# Altium footprint library ENGG4000-SysMoDEL-BMS.PcbLib: 82 footprints (part 5 of 6)
Each footprint in its own frame and in the unit in brackets; x right, y up, seen from the top. Pads: shape width x height; smd on the part's side, far side on the other; paste and mask are expansions set on the pad; w line width, h text height; cw(c..) or ccw(c..) is an arc to the next point about the centre after c.
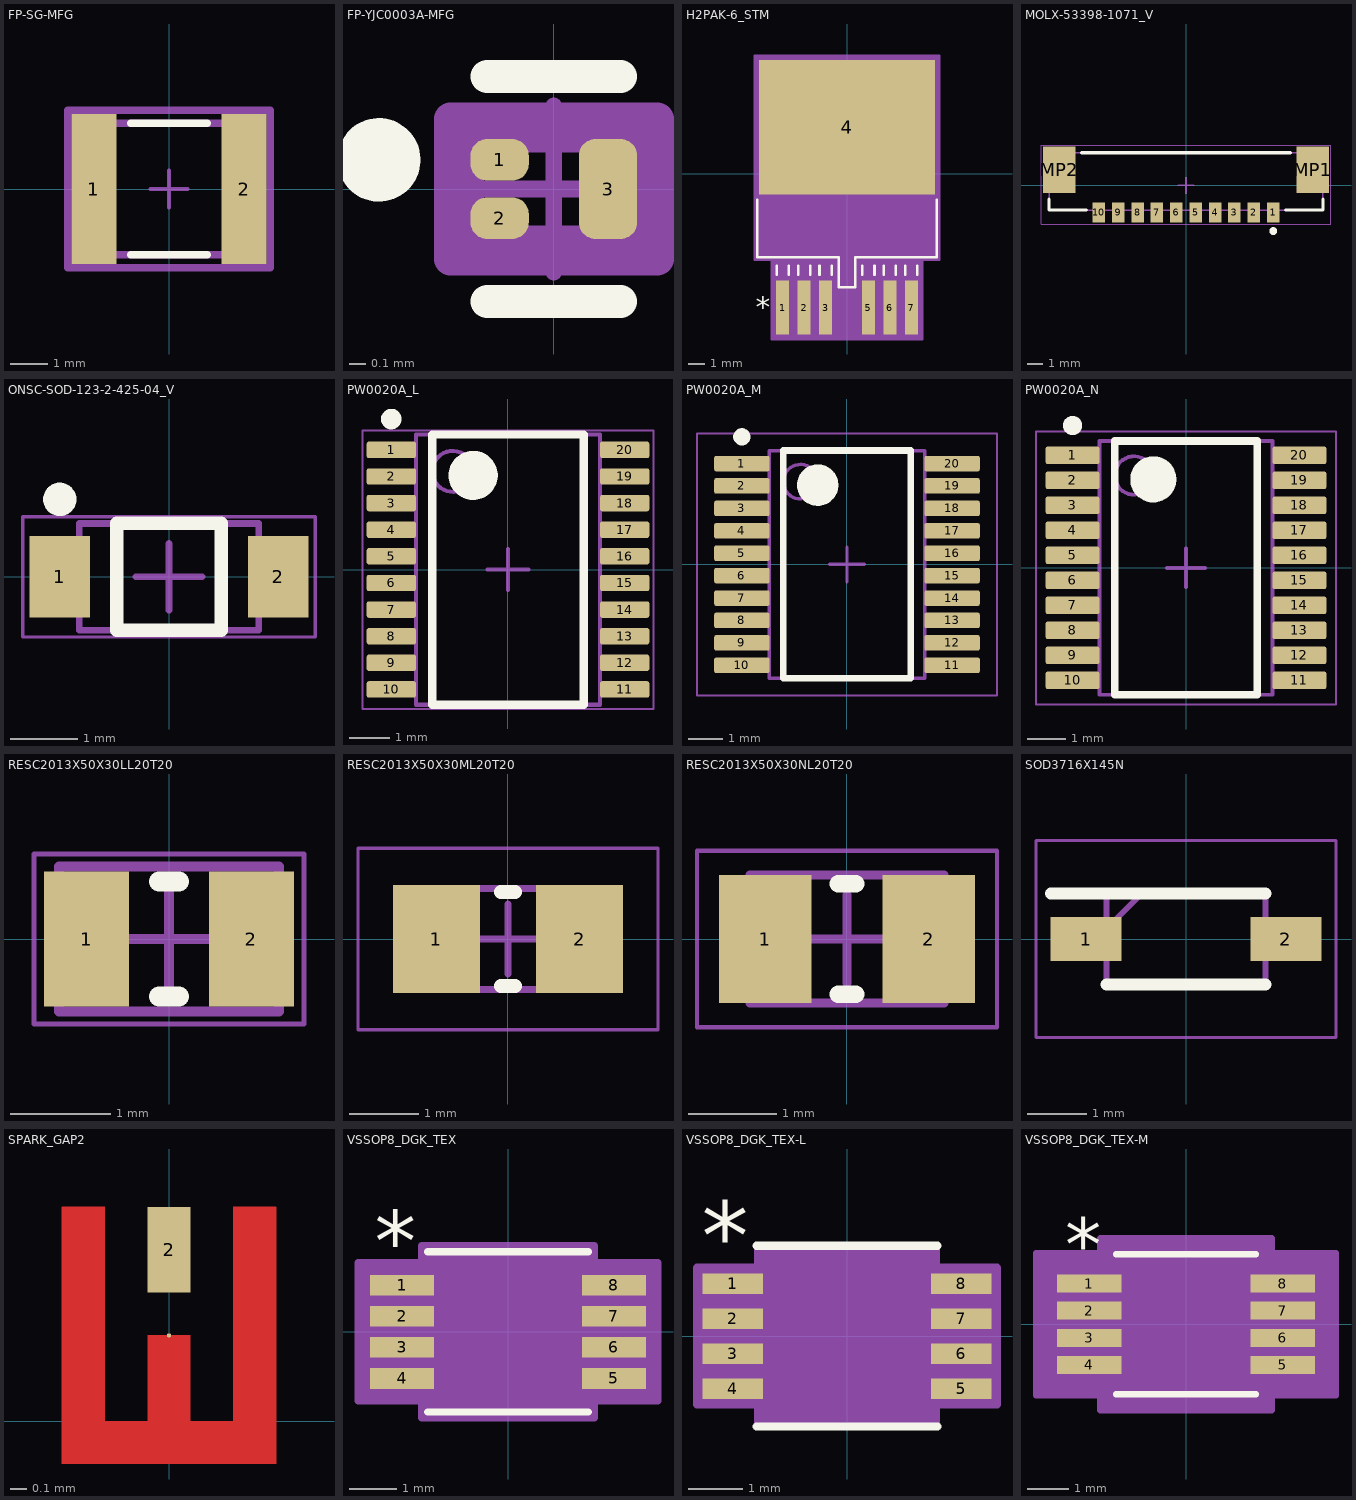
[diagram p4: the footprints below, top view; thin cyan lines are the x and y axes]

## FP-SG-MFG [mm]
pads (2):
  rect 1.2x4 smd paste+0 mask+0: 1(-2,0) 2(2,0)
Top Overlay:
  lines w0.2: -1.025,-1.75 1.025,-1.75 ; -1.025,1.75 1.025,1.75
Top Assembly:
  lines w0.2: -2.7,-2.1 2.7,-2.1 2.7,2.1 -2.7,2.1 -2.7,-2.1
  text ".Designator" at 0,0.188 h1
Top 3D Body:
  lines w0.2: -2.4,-1.75 2.4,-1.75 2.4,1.75 -2.4,1.75 -2.4,-1.75
Top Courtyard:
  lines w0.2: -2.7,-2.1 2.7,-2.1 2.7,2.1 -2.7,2.1 -2.7,-2.1
Top Component Center:
  lines w0.1: -0.5,0 0.5,0 ; 0,-0.5 0,0.5
3D body "Fuse_Littelfuse_Inc_SG90_eec.STEP": height 0.25, standoff 0, extent -2.7,-2.1 2.7,2.1

## FP-YJC0003A-MFG [mm]
pads (3):
  rrect80% 0.35x0.25 smd paste-1000 mask-1000: 1(-0.325,0.175) 2(-0.325,-0.175)
  rrect57% 0.35x0.6 smd paste-1000 mask-1000: 3(0.325,0)
Top Overlay:
  circle w0.25: c-1.05,0.175 r0.125
  lines w0.2: -0.4,-0.675 0.4,-0.675 ; -0.4,0.675 0.4,0.675
Top Paste:
  region: 0.2,0.2 0.2,0.21 0.208,0.228 0.222,0.242 0.24,0.25 0.25,0.25 0.4,0.25 0.41,0.25 0.428,0.242 0.442,0.228 0.45,0.21 0.45,0.2 0.45,-0.2 0.45,-0.21 0.442,-0.228 0.428,-0.242 0.41,-0.25 0.4,-0.25 0.25,-0.25 0.24,-0.25 0.222,-0.242 0.208,-0.228 0.2,-0.21 0.2,-0.2
  region: -0.45,0.25 -0.45,0.26 -0.442,0.278 -0.428,0.292 -0.41,0.3 -0.4,0.3 -0.25,0.3 -0.24,0.3 -0.222,0.292 -0.208,0.278 -0.2,0.26 -0.2,0.25 -0.2,0.15 -0.2,0.14 -0.208,0.122 -0.222,0.108 -0.24,0.1 -0.25,0.1 -0.4,0.1 -0.41,0.1 -0.428,0.108 -0.442,0.122 -0.45,0.14 -0.45,0.15
  region: -0.45,-0.15 -0.45,-0.14 -0.442,-0.122 -0.428,-0.108 -0.41,-0.1 -0.4,-0.1 -0.25,-0.1 -0.24,-0.1 -0.222,-0.108 -0.208,-0.122 -0.2,-0.14 -0.2,-0.15 -0.2,-0.25 -0.2,-0.26 -0.208,-0.278 -0.222,-0.292 -0.24,-0.3 -0.25,-0.3 -0.4,-0.3 -0.41,-0.3 -0.428,-0.292 -0.442,-0.278 -0.45,-0.26 -0.45,-0.25
Top Solder:
  region: 0.2,0.2 0.2,0.21 0.208,0.228 0.222,0.242 0.24,0.25 0.25,0.25 0.4,0.25 0.41,0.25 0.428,0.242 0.442,0.228 0.45,0.21 0.45,0.2 0.45,-0.2 0.45,-0.21 0.442,-0.228 0.428,-0.242 0.41,-0.25 0.4,-0.25 0.25,-0.25 0.24,-0.25 0.222,-0.242 0.208,-0.228 0.2,-0.21 0.2,-0.2
  region: -0.4,0.25 -0.25,0.25 -0.24,0.25 -0.222,0.242 -0.208,0.228 -0.2,0.21 -0.2,0.2 -0.2,0.15 -0.2,0.14 -0.208,0.122 -0.222,0.108 -0.24,0.1 -0.25,0.1 -0.4,0.1 -0.41,0.1 -0.428,0.108 -0.442,0.122 -0.45,0.14 -0.45,0.15 -0.45,0.2 -0.45,0.21 -0.442,0.228 -0.428,0.242 -0.41,0.25
  region: -0.45,-0.15 -0.45,-0.14 -0.442,-0.122 -0.428,-0.108 -0.41,-0.1 -0.4,-0.1 -0.25,-0.1 -0.24,-0.1 -0.222,-0.108 -0.208,-0.122 -0.2,-0.14 -0.2,-0.15 -0.2,-0.2 -0.2,-0.21 -0.208,-0.228 -0.222,-0.242 -0.24,-0.25 -0.25,-0.25 -0.4,-0.25 -0.41,-0.25 -0.428,-0.242 -0.442,-0.228 -0.45,-0.21 -0.45,-0.2
Top Assembly:
  lines w0.2: -0.62,-0.42 0.62,-0.42 0.62,0.42 -0.62,0.42 -0.62,-0.42
  text ".Designator" at 0,0 h1
Top 3D Body:
  lines w0.2: -0.52,-0.32 0.52,-0.32 0.52,0.32 -0.52,0.32 -0.52,-0.32
Top Courtyard:
  lines w0.2: -0.62,-0.42 0.62,-0.42 0.62,0.42 -0.62,0.42 -0.62,-0.42
Top Component Center:
  lines w0.1: -0.5,0 0.5,0 ; 0,-0.5 0,0.5
3D body "Trans_Texas_Instruments_CSD23381F4T_eec.STEP": height 0.25, standoff 0, extent -0.62,-0.42 0.62,0.42

## H2PAK-6_STM [mil]
pads (7):
  rect 30x126 smd paste+0 mask+0: 1(-150,-311.5) 2(-100,-311.5) 3(-50,-311.5) 5(50,-311.5) 6(100,-311.5) 7(150,-311.5)
  rect 411x313 smd paste+0 mask+0: 4(0,109)
Top Overlay:
  lines w6: -209.5,-59.97 -209.5,-194.5 -19,-194.5 -19,-263.5 19,-263.5 19,-194.5 209.5,-194.5 209.5,-59.97 ; -164,-234.5 -164,-213.5 ; -136,-234.5 -136,-213.5 ; -114,-234.5 -114,-213.5 ; -86,-234.5 -86,-213.5 ; -64,-234.5 -64,-213.5 ; -36,-234.5 -36,-213.5 ; 36,-234.5 36,-213.5 ; 64,-234.5 64,-213.5 ; 86,-234.5 86,-213.5 ; 114,-234.5 114,-213.5 ; 136,-234.5 136,-213.5 ; 164,-234.5 164,-213.5
  text "*" at -212.5,-336.5 h50
Top 3D Body:
  lines w1: -204.5,-189.5 204.5,-189.5 204.5,189.5 -204.5,189.5 -204.5,-189.5 ; -164,-360.5 -164,-189.5 -136,-189.5 -136,-360.5 -164,-360.5 ; -114,-360.5 -114,-189.5 -86,-189.5 -86,-360.5 -114,-360.5 ; -64,-360.5 -64,-189.5 -36,-189.5 -36,-360.5 -64,-360.5 ; -14,-258.5 -14,-189.5 14,-189.5 14,-258.5 -14,-258.5 ; 36,-360.5 36,-189.5 64,-189.5 64,-360.5 36,-360.5 ; 86,-360.5 86,-189.5 114,-189.5 114,-360.5 86,-360.5 ; 136,-360.5 136,-189.5 164,-189.5 164,-360.5 136,-360.5
  text "*" at -162.5,-204.5 h50
Top Courtyard:
  region: -214.5,-199.5 -214.5,199.5 -214.5,275.5 214.5,275.5 214.5,199.5 214.5,-199.5 175,-199.5 175,-384.5 -175,-384.5 -175,-199.5
  lines w6: -214.5,-199.5 -214.5,199.5 -214.5,275.5 214.5,275.5 214.5,199.5 214.5,-199.5 175,-199.5 175,-384.5 -175,-384.5 -175,-199.5 -214.5,-199.5
3D body "DPAK_N10F7-6_STM.step": height 189.09, standoff -2.01, extent -204.49,-370 204.49,285

## MOLX-53398-1071_V [mm] "SMD, 10-Leads, Body 17.65x3.7mm, Pitch 1.25mm"
height 4.7
pads (12):
  rect 0.8x1.3 smd: 1(5.625,-1.75) 2(4.375,-1.75) 3(3.125,-1.75) 4(1.875,-1.75) 5(0.625,-1.75) 6(-0.625,-1.75) 7(-1.875,-1.75) 8(-3.125,-1.75) 9(-4.375,-1.75) 10(-5.625,-1.75)
  rect 2.1x3 smd: MP1(8.175,1) MP2(-8.175,1)
Top Overlay:
  circle w0.25: c5.625,-2.95 r0.125
  lines w0.2: -8.825,-0.9 -8.825,-1.6 -6.425,-1.6 ; -6.725,2.1 6.725,2.1 ; 6.425,-1.6 8.825,-1.6 8.825,-0.9
Top 3D Body:
  lines w0.1: -8.825,-1.6 -8.825,2.1 8.825,2.1 8.825,-1.6 -8.825,-1.6
Top Courtyard:
  lines w0.05: -9.325,-2.5 9.325,-2.5 9.325,2.6 -9.325,2.6 -9.325,-2.5
  lines w0.1: -0.5,0 0.5,0 ; 0,-0.5 0,0.5
3D body "533981071.stp": height 4.77, standoff 0.03, extent -8.825,-2.1 8.825,2.1

## ONSC-SOD-123-2-425-04_V [mm] "SOD, 2-Leads, Body 2.69x1.6mm"
height 1.35
pads (2):
  rect 0.91x1.22 smd: 1(-1.635,0) 2(1.635,0)
Top Overlay:
  circle w0.25: c-1.635,1.16 r0.125
  lines w0.2: -0.78,-0.8 -0.78,0.8 0.78,0.8 0.78,-0.8 -0.78,-0.8
Top 3D Body:
  lines w0.1: -1.345,-0.8 -1.345,0.8 1.345,0.8 1.345,-0.8 -1.345,-0.8
Top Courtyard:
  lines w0.05: -2.19,-0.9 -2.19,0.9 2.19,0.9 2.19,-0.9 -2.19,-0.9
  lines w0.1: -0.5,0 0.5,0 ; 0,-0.5 0,0.5
3D body: height 1.35, standoff 0, extent -1.345,-0.8 1.345,0.8

## PW0020A_L [mm] "SOP, 20-Leads, Body 6.6x4.5mm, Pitch 0.65mm, IPC High Density"
height 1.2
pads (20):
  rrect25% 1.2x0.4 smd: 1(-2.85,2.925) 2(-2.85,2.275) 3(-2.85,1.625) 4(-2.85,0.975) 5(-2.85,0.325) 6(-2.85,-0.325) 7(-2.85,-0.975) 8(-2.85,-1.625) 9(-2.85,-2.275) 10(-2.85,-2.925) 11(2.85,-2.925) 12(2.85,-2.275) 13(2.85,-1.625) 14(2.85,-0.975) 15(2.85,-0.325) 16(2.85,0.325) 17(2.85,0.975) 18(2.85,1.625) 19(2.85,2.275) 20(2.85,2.925)
Top Overlay:
  circle w0.6: c-0.85,2.3 r0.3
  circle w0.25: c-2.85,3.675 r0.125
  lines w0.2: -1.85,-3.3 1.85,-3.3 1.85,3.3 -1.85,3.3 -1.85,-3.3
Mechanical 1:
  text ".Designator" at -1.524,-0.508 h1.02
Top 3D Body:
  circle w0.1: c-1.35,2.4 r0.5
  lines w0.1: -2.25,-3.3 2.25,-3.3 2.25,3.3 -2.25,3.3 -2.25,-3.3
Top Courtyard:
  lines w0.05: -3.55,-3.4 3.55,-3.4 3.55,3.4 -3.55,3.4 -3.55,-3.4
  lines w0.1: -0.5,0 0.5,0 ; 0,-0.5 0,0.5
3D body "PW0020AakaMTC20.stp": height 1, standoff 0, extent -3.21,-3.25 3.21,3.25

## PW0020A_M [mm] "SOP, 20-Leads, Body 6.6x4.5mm, Pitch 0.65mm, IPC Low Density"
height 1.2
pads (20):
  rrect22% 1.6x0.45 smd: 1(-3.05,2.925) 2(-3.05,2.275) 3(-3.05,1.625) 4(-3.05,0.975) 5(-3.05,0.325) 6(-3.05,-0.325) 7(-3.05,-0.975) 8(-3.05,-1.625) 9(-3.05,-2.275) 10(-3.05,-2.925) 11(3.05,-2.925) 12(3.05,-2.275) 13(3.05,-1.625) 14(3.05,-0.975) 15(3.05,-0.325) 16(3.05,0.325) 17(3.05,0.975) 18(3.05,1.625) 19(3.05,2.275) 20(3.05,2.925)
Top Overlay:
  circle w0.6: c-0.85,2.3 r0.3
  circle w0.25: c-3.05,3.7 r0.125
  lines w0.2: -1.85,-3.3 1.85,-3.3 1.85,3.3 -1.85,3.3 -1.85,-3.3
Mechanical 1:
  text ".Designator" at -1.524,-0.508 h1.02
Top 3D Body:
  circle w0.1: c-1.35,2.4 r0.5
  lines w0.1: -2.25,-3.3 2.25,-3.3 2.25,3.3 -2.25,3.3 -2.25,-3.3
Top Courtyard:
  lines w0.05: -4.35,-3.8 4.35,-3.8 4.35,3.8 -4.35,3.8 -4.35,-3.8
  lines w0.1: -0.5,0 0.5,0 ; 0,-0.5 0,0.5
3D body "PW0020AakaMTC20.stp": height 1, standoff 0, extent -3.21,-3.25 3.21,3.25

## PW0020A_N [mm] "SOP, 20-Leads, Body 6.6x4.5mm, Pitch 0.65mm, IPC Medium Density"
height 1.2
pads (20):
  rrect22% 1.4x0.45 smd: 1(-2.95,2.925) 2(-2.95,2.275) 3(-2.95,1.625) 4(-2.95,0.975) 5(-2.95,0.325) 6(-2.95,-0.325) 7(-2.95,-0.975) 8(-2.95,-1.625) 9(-2.95,-2.275) 10(-2.95,-2.925) 11(2.95,-2.925) 12(2.95,-2.275) 13(2.95,-1.625) 14(2.95,-0.975) 15(2.95,-0.325) 16(2.95,0.325) 17(2.95,0.975) 18(2.95,1.625) 19(2.95,2.275) 20(2.95,2.925)
Top Overlay:
  circle w0.25: c-2.95,3.7 r0.125
  circle w0.6: c-0.85,2.3 r0.3
  lines w0.2: -1.85,-3.3 -1.85,3.3 1.85,3.3 1.85,-3.3 -1.85,-3.3
Mechanical 1:
  text ".Designator" at -1.524,-0.508 h1.02
Top 3D Body:
  circle w0.1: c-1.35,2.4 r0.5
  lines w0.1: -2.25,-3.3 -2.25,3.3 2.25,3.3 2.25,-3.3 -2.25,-3.3
Top Courtyard:
  lines w0.05: -3.9,-3.55 -3.9,3.55 3.9,3.55 3.9,-3.55 -3.9,-3.55
  lines w0.1: -0.5,0 0.5,0 ; 0,-0.5 0,0.5
3D body "PW0020AakaMTC20.stp": height 1, standoff 0, extent -3.21,-3.25 3.21,3.25

## RESC2013X50X30LL20T20 [mm] "Chip Resistor, 2-Leads, Body 2.00x1.25mm, IPC High Density"
height 0.5
pads (2):
  rect 0.85x1.35 smd: 1(-0.825,0) 2(0.825,0)
Top Overlay:
  lines w0.2: -0.1,-0.575 0.1,-0.575 ; -0.1,0.575 0.1,0.575
Top 3D Body:
  lines w0.1: -1.1,-0.725 -1.1,0.725 1.1,0.725 1.1,-0.725 -1.1,-0.725
Top Courtyard:
  lines w0.05: -1.35,-0.85 -1.35,0.85 1.35,0.85 1.35,-0.85 -1.35,-0.85
  lines w0.1: -0.5,0 0.5,0 ; 0,-0.5 0,0.5
3D body: height 0.5, standoff 0, extent -0.8,-0.725 0.8,0.725
3D body: height 0.5, standoff 0, extent -1.1,-0.725 -0.8,0.725
3D body: height 0.5, standoff 0, extent 0.8,-0.725 1.1,0.725

## RESC2013X50X30ML20T20 [mm] "Chip Resistor, 2-Leads, Body 2.00x1.25mm, IPC Low Density"
height 0.5
pads (2):
  rect 1.25x1.55 smd: 1(-1.025,0) 2(1.025,0)
Top Overlay:
  lines w0.2: -0.1,-0.675 0.1,-0.675 ; -0.1,0.675 0.1,0.675
Top 3D Body:
  lines w0.1: -1.1,-0.725 1.1,-0.725 1.1,0.725 -1.1,0.725 -1.1,-0.725
Top Courtyard:
  lines w0.05: -2.15,-1.3 2.15,-1.3 2.15,1.3 -2.15,1.3 -2.15,-1.3
  lines w0.1: -0.5,0 0.5,0 ; 0,-0.5 0,0.5
3D body: height 0.5, standoff 0, extent 0.8,-0.725 1.1,0.725
3D body: height 0.5, standoff 0, extent -1.1,-0.725 -0.8,0.725
3D body: height 0.5, standoff 0, extent -0.8,-0.725 0.8,0.725

## RESC2013X50X30NL20T20 [mm] "Chip Resistor, 2-Leads, Body 2.00x1.25mm, IPC Medium Density"
height 0.5
pads (2):
  rect 1.05x1.45 smd: 1(-0.925,0) 2(0.925,0)
Top Overlay:
  lines w0.2: -0.1,-0.625 0.1,-0.625 ; -0.1,0.625 0.1,0.625
Top 3D Body:
  lines w0.1: -1.1,-0.725 1.1,-0.725 1.1,0.725 -1.1,0.725 -1.1,-0.725
Top Courtyard:
  lines w0.05: -1.7,-1 1.7,-1 1.7,1 -1.7,1 -1.7,-1
  lines w0.1: -0.5,0 0.5,0 ; 0,-0.5 0,0.5
3D body: height 0.5, standoff 0, extent 0.8,-0.725 1.1,0.725
3D body: height 0.5, standoff 0, extent -1.1,-0.725 -0.8,0.725
3D body: height 0.5, standoff 0, extent -0.8,-0.725 0.8,0.725

## SOD3716X145N [mm]
pads (2):
  rect 1.2x0.75 smd: 1(-1.7,0) 2(1.7,0)
Top Overlay:
  lines w0.2: -2.3,0.775 1.35,0.775 ; -1.35,-0.775 1.35,-0.775
Top Courtyard:
  lines w0.1: -1.35,0.175 -0.75,0.775 ; -1.35,-0.775 1.35,-0.775 1.35,0.775 -1.35,0.775 -1.35,-0.775
Bottom Assembly:
  lines w0.05: -2.55,-1.675 2.55,-1.675 2.55,1.675 -2.55,1.675 -2.55,-1.675

## SPARK_GAP2 [mil] "Copied from PADS legacy libraries."
pads (2):
  round 1 smd mask-99999: 1(0,20)
  rect 10x20 smd mask-99999: 2(0,40)
Top Layer:
  region: -25,50 -15,50 -15,0 -5,0 -5,20 5,20 5,0 15,0 15,50 25,50 25,-10 -25,-10
Top Solder:
  region: -25,-10 25,-10 25,60 10,60 10,24 -10,24 -10,60 -25,60
  region: -10,24 -10,60 10,60 10,24

## VSSOP8_DGK_TEX [mil]
pads (8):
  rect 52.5x17 smd paste+0 mask+0: 1(-87.25,38.39) 2(-87.25,12.8) 3(-87.25,-12.8) 4(-87.25,-38.39) 5(87.25,-38.39) 6(87.25,-12.8) 7(87.25,12.8) 8(87.25,38.39)
Top Overlay:
  lines w6: -66,-66 66,-66 ; -66,66 66,66
  text "*" at -109.75,50.39 h50
Top 3D Body:
  lines w0: -12,61 ccw(c0,61) 12,61
  lines w1: -99.5,-45.89 -61,-45.89 -61,-30.89 -99.5,-30.89 -99.5,-45.89 ; -99.5,-20.3 -61,-20.3 -61,-5.3 -99.5,-5.3 -99.5,-20.3 ; -99.5,5.3 -61,5.3 -61,20.3 -99.5,20.3 -99.5,5.3 ; -99.5,30.89 -61,30.89 -61,45.89 -99.5,45.89 -99.5,30.89 ; -61,-61 -61,61 61,61 61,-61 -61,-61 ; 61,-45.89 99.5,-45.89 99.5,-30.89 61,-30.89 61,-45.89 ; 61,-20.3 99.5,-20.3 99.5,-5.3 61,-5.3 61,-20.3 ; 61,5.3 99.5,5.3 99.5,20.3 61,20.3 61,5.3 ; 61,30.89 99.5,30.89 99.5,45.89 61,45.89 61,30.89
  text "*" at -58.5,8 h50
Top Courtyard:
  region: -71,-56.89 -123.5,-56.89 -123.5,56.89 -71,56.89 -71,71 71,71 71,56.89 123.5,56.89 123.5,-56.89 71,-56.89 71,-71 -71,-71
  lines w6: -123.5,-56.89 -71,-56.89 -71,-71 71,-71 71,-56.89 123.5,-56.89 123.5,56.89 71,56.89 71,71 -71,71 -71,56.89 -123.5,56.89 -123.5,-56.89
3D body "VSSOP8_DGK_TEX.step": height 43.11, standoff 0, extent -99.49,-60.98 99.49,60.98

## VSSOP8_DGK_TEX-L [mil]
pads (8):
  rect 44x15 smd paste+0 mask+0: 1(-83.5,38.39) 2(-83.5,12.8) 3(-83.5,-12.8) 4(-83.5,-38.39) 5(83.5,-38.39) 6(83.5,-12.8) 7(83.5,12.8) 8(83.5,38.39)
Top Overlay:
  lines w6: -66,-66 66,-66 ; -66,66 66,66
  text "*" at -106,48.39 h50
Top 3D Body:
  lines w0: -12,61 ccw(c0,61) 12,61
  lines w1: -99.5,-45.89 -61,-45.89 -61,-30.89 -99.5,-30.89 -99.5,-45.89 ; -99.5,-20.3 -61,-20.3 -61,-5.3 -99.5,-5.3 -99.5,-20.3 ; -99.5,5.3 -61,5.3 -61,20.3 -99.5,20.3 -99.5,5.3 ; -99.5,30.89 -61,30.89 -61,45.89 -99.5,45.89 -99.5,30.89 ; -61,-61 -61,61 61,61 61,-61 -61,-61 ; 61,-45.89 99.5,-45.89 99.5,-30.89 61,-30.89 61,-45.89 ; 61,-20.3 99.5,-20.3 99.5,-5.3 61,-5.3 61,-20.3 ; 61,5.3 99.5,5.3 99.5,20.3 61,20.3 61,5.3 ; 61,30.89 99.5,30.89 99.5,45.89 61,45.89 61,30.89
  text "*" at -58.5,8 h50
Top Courtyard:
  region: -65,-49.89 -109.5,-49.89 -109.5,49.89 -65,49.89 -65,65 65,65 65,49.89 109.5,49.89 109.5,-49.89 65,-49.89 65,-65 -65,-65
  lines w6: -109.5,-49.89 -65,-49.89 -65,-65 65,-65 65,-49.89 109.5,-49.89 109.5,49.89 65,49.89 65,65 -65,65 -65,49.89 -109.5,49.89 -109.5,-49.89
3D body "VSSOP8_DGK_TEX.step": height 43.11, standoff 0, extent -99.49,-60.98 99.49,60.98

## VSSOP8_DGK_TEX-M [mil]
pads (8):
  rect 60.5x17 smd paste+0 mask+0: 1(-91.25,38.39) 2(-91.25,12.8) 3(-91.25,-12.8) 4(-91.25,-38.39) 5(91.25,-38.39) 6(91.25,-12.8) 7(91.25,12.8) 8(91.25,38.39)
Top Overlay:
  lines w6: -66,-66 66,-66 ; -66,66 66,66
  text "*" at -113.75,50.39 h50
Top 3D Body:
  lines w0: -12,61 ccw(c0,61) 12,61
  lines w1: -99.5,-45.89 -61,-45.89 -61,-30.89 -99.5,-30.89 -99.5,-45.89 ; -99.5,-20.3 -61,-20.3 -61,-5.3 -99.5,-5.3 -99.5,-20.3 ; -99.5,5.3 -61,5.3 -61,20.3 -99.5,20.3 -99.5,5.3 ; -99.5,30.89 -61,30.89 -61,45.89 -99.5,45.89 -99.5,30.89 ; -61,-61 -61,61 61,61 61,-61 -61,-61 ; 61,-45.89 99.5,-45.89 99.5,-30.89 61,-30.89 61,-45.89 ; 61,-20.3 99.5,-20.3 99.5,-5.3 61,-5.3 61,-20.3 ; 61,5.3 99.5,5.3 99.5,20.3 61,20.3 61,5.3 ; 61,30.89 99.5,30.89 99.5,45.89 61,45.89 61,30.89
  text "*" at -58.5,8 h50
Top Courtyard:
  region: -81,-66.89 -141.5,-66.89 -141.5,66.89 -81,66.89 -81,81 81,81 81,66.89 141.5,66.89 141.5,-66.89 81,-66.89 81,-81 -81,-81
  lines w6: -141.5,-66.89 -81,-66.89 -81,-81 81,-81 81,-66.89 141.5,-66.89 141.5,66.89 81,66.89 81,81 -81,81 -81,66.89 -141.5,66.89 -141.5,-66.89
3D body "VSSOP8_DGK_TEX.step": height 43.11, standoff 0, extent -99.49,-60.98 99.49,60.98